# EAGLE library part TPS62291 (library texas-instruments)
1A Step Down Converter in 2 x 2 SON Package The TPS6229x device is a highly efficient synchronous step down dc-dc converter optimized for battery powered portable applications. It provides up to 1000-mA output current from a single Li-Ion cell. With an input voltage range of 2.3 V to 6 V, the device supports batteries with extended voltage range and are ideal to power portable applications like mobile phones and other portable equipment. The TPS6229x operates at 2.25-MHz fixed switching frequency and enters Power Save Mode operation at light load currents to maintain high efficiency over the entire load current range. The Power Save Mode is optimized for low output voltage ripple. For low noise applications, the device can be forced into fixed frequency PWM mode by pulling the MODE pin high. In the shutdown mode, the current consumption is reduced to less than 1 µA. The TPS6229x allows the use of small inductors and capacitors to achieve a small solution size.
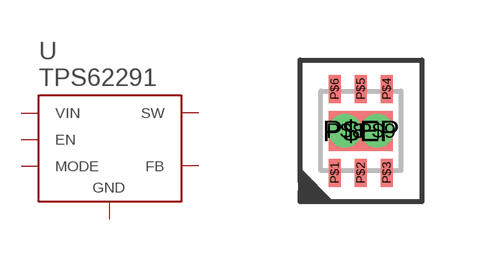
[diagram p8: symbol with the pads of P-PWSON-N6; footprint P-PWSON-N6]

Designator prefix U

## TPS62291  [P-PWSON-N6]
P$1  SW
P$2  MODE
P$3  FB
P$4  EN
P$5  VIN
P$6  GND
P$8  GND
P$9  GND
P$EP  GND

## Footprint P-PWSON-N6 (pad centres in mm)
smd 0.3 x 0.7: P$1 -0.65,-1.05; P$2 0,-1.05; P$3 0.65,-1.05; P$4 0.65,1.05; P$5 0,1.05; P$6 -0.65,1.05
drill 0.33 pad 0.5: P$8 -0.4,0; P$9 0.4,0
smd 1.6 x 1: P$EP 0,0